# Altium schematic symbol library indication.SchLib: 22 symbols
Pins are listed as number, name and electrical type; pins without a type are passive.

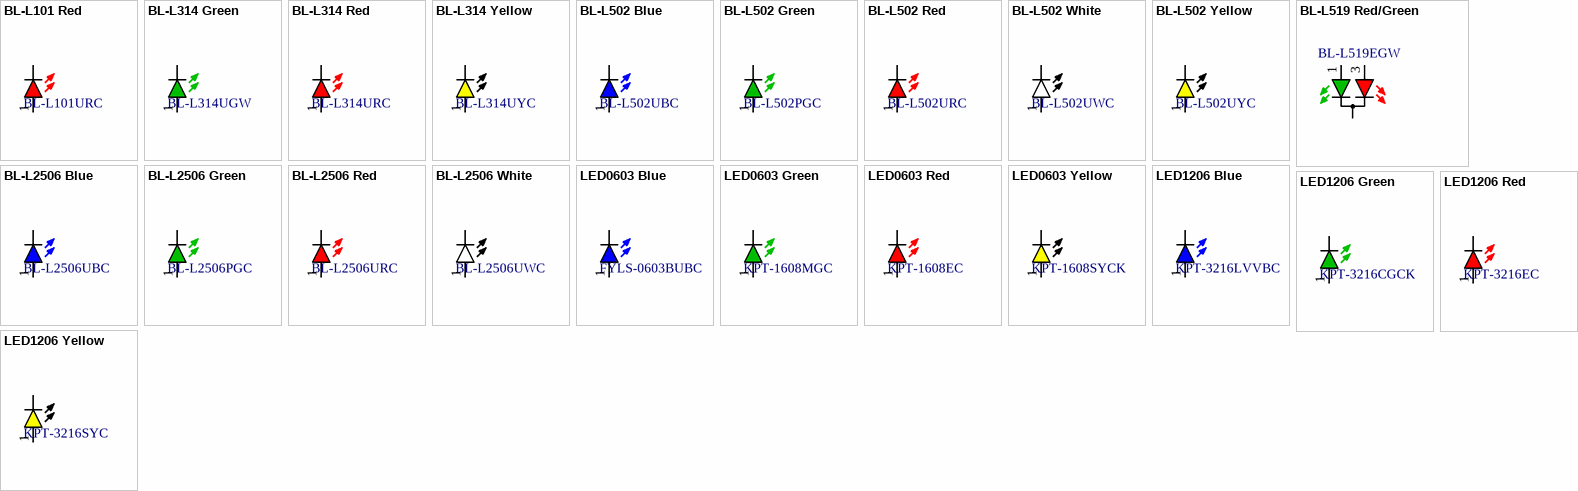
[diagram p0: symbols BL-L101 Red to LED1206 Yellow]

## BL-L101 Red
designator VD?, comment BL-L101URC
LED L101 Red d=10mm; Manufacturer: Betlux Electronics; Type: led-th; Power/Voltage: 0.1W; Value: 2.2V 20mA; ManufacturerPartNumber: BL-L101URC; RevisionDate: 20-11-2018; Package: L101; Name: BL-L101URC
footprint BL-L101RED (Chip Resistor, 2-Leads, Body 3,13x1,55mm, IPC Medium Density)
pins: 1, 2

## BL-L314 Green
designator VD?, comment BL-L314UGW
LED L314 Green d=3mm; Manufacturer: Betlux Electronics; Type: led-th; Power/Voltage: 0.1W; Value: 2.4V 20mA; ManufacturerPartNumber: BL-L314UGW; RevisionDate: 20-11-2018; Package: L314; Name: BL-L314UGW
footprint BL-L314GRN (Chip Resistor, 2-Leads, Body 3,13x1,55mm, IPC Medium Density)
pins: 1, 2

## BL-L314 Red
designator VD?, comment BL-L314URC
LED L314 Red d=3mm; Manufacturer: Betlux Electronics; Type: led-th; Power/Voltage: 0.1W; Value: 2.2V 20mA; ManufacturerPartNumber: BL-L314URC; RevisionDate: 20-11-2018; Package: L314; Name: BL-L314URC
footprint BL-L314RED (Chip Resistor, 2-Leads, Body 3,13x1,55mm, IPC Medium Density)
pins: 1, 2

## BL-L314 Yellow
designator VD?, comment BL-L314UYC
LED L314 Yellow d=3mm; Manufacturer: Betlux Electronics; Type: led-th; Power/Voltage: 0.1W; Value: 2.2V 20mA; ManufacturerPartNumber: BL-L314UYC; RevisionDate: 20-11-2018; Package: L314; Name: BL-L314UYC
footprint BL-L314YEL (Chip Resistor, 2-Leads, Body 3,13x1,55mm, IPC Medium Density)
pins: 1, 2

## BL-L502 Blue
designator VD?, comment BL-L502UBC
LED L502 Blue d=5mm; Manufacturer: Betlux Electronics; Type: led-th; Power/Voltage: 0.1W; Value: 2.1V 20mA; ManufacturerPartNumber: BL-L502UBC; RevisionDate: 20-11-2018; Package: L502; Name: BL-L502UBC
footprint BL-L502RED (Chip Resistor, 2-Leads, Body 3,13x1,55mm, IPC Medium Density)
pins: 1, 2

## BL-L502 Green
designator VD?, comment BL-L502PGC
LED L502 Green d=5mm; Manufacturer: Betlux Electronics; Type: led-th; Power/Voltage: 0.1W; Value: 2.1V 20mA; ManufacturerPartNumber: BL-L502PGC; RevisionDate: 20-11-2018; Package: L502; Name: BL-L502PGC
footprint BL-L502RED (Chip Resistor, 2-Leads, Body 3,13x1,55mm, IPC Medium Density)
pins: 1, 2

## BL-L502 Red
designator VD?, comment BL-L502URC
LED L502 Red d=5mm; Manufacturer: Betlux Electronics; Type: led-th; Power/Voltage: 0.1W; Value: 2.1V 20mA; ManufacturerPartNumber: BL-L502URC; RevisionDate: 20-11-2018; Package: L502; Name: BL-L502URC
footprint BL-L502RED (Chip Resistor, 2-Leads, Body 3,13x1,55mm, IPC Medium Density)
pins: 1, 2

## BL-L502 White
designator VD?, comment BL-L502UWC
LED L502 White d=5mm; Manufacturer: Betlux Electronics; Type: led-th; Power/Voltage: 0.1W; Value: 2.1V 20mA; ManufacturerPartNumber: BL-L502UWC; RevisionDate: 20-11-2018; Package: L502; Name: BL-L502UWC
footprint BL-L502RED (Chip Resistor, 2-Leads, Body 3,13x1,55mm, IPC Medium Density)
pins: 1, 2

## BL-L502 Yellow
designator VD?, comment BL-L502UYC
LED L502 Yellow d=5mm; Manufacturer: Betlux Electronics; Type: led-th; Power/Voltage: 0.1W; Value: 2.1V 20mA; ManufacturerPartNumber: BL-L502UYC; RevisionDate: 20-11-2018; Package: L502; Name: BL-L502UYC
footprint BL-L502RED (Chip Resistor, 2-Leads, Body 3,13x1,55mm, IPC Medium Density)
pins: 1, 2

## BL-L519 Red/Green
designator VD?, comment BL-L519EGW
LED L519 Red/Green d=5mm; Manufacturer: Betlux Electronics; Type: led-th; Power/Voltage: 0.1W; Value: 2.2V 20mA; ManufacturerPartNumber: BL-L519EGW; RevisionDate: 20-11-2018; Package: L519; Name: BL-L519EGW
footprint BL-L519 (Chip Resistor, 2-Leads, Body 3,13x1,55mm, IPC Medium Density)
pins: 1, 2, 3

## BL-L2506 Blue
designator VD?, comment BL-L2506UBC
LED L2506 Blue 5x2.5mm; Manufacturer: Betlux Electronics; Type: led-th; Power/Voltage: 0.1W; Value: 2.0V 20mA; ManufacturerPartNumber: BL-L2506UBC; RevisionDate: 20-11-2018; Package: L2506; Name: BL-L2506UBC
footprint BL-L2506BLU (Chip Resistor, 2-Leads, Body 3,13x1,55mm, IPC Medium Density)
pins: 1, 2

## BL-L2506 Green
designator VD?, comment BL-L2506PGC
LED L2506 Green 5x2.5mm; Manufacturer: Betlux Electronics; Type: led-th; Power/Voltage: 0.1W; Value: 2.0V 20mA; ManufacturerPartNumber: BL-L2506PGC; RevisionDate: 20-11-2018; Package: L2506; Name: BL-L2506PGC
footprint BL-L2506GRN (Chip Resistor, 2-Leads, Body 3,13x1,55mm, IPC Medium Density)
pins: 1, 2

## BL-L2506 Red
designator VD?, comment BL-L2506URC
LED L2506 Red 5x2.5mm; Manufacturer: Betlux Electronics; Type: led-th; Power/Voltage: 0.1W; Value: 2.0V 20mA; ManufacturerPartNumber: BL-L2506URC; RevisionDate: 20-11-2018; Package: L2506; Name: BL-L2506URC
footprint BL-L2506RED (Chip Resistor, 2-Leads, Body 3,13x1,55mm, IPC Medium Density)
pins: 1, 2

## BL-L2506 White
designator VD?, comment BL-L2506UWC
LED L2506 White 5x2.5mm; Manufacturer: Betlux Electronics; Type: led-th; Power/Voltage: 0.1W; Value: 2.0V 20mA; ManufacturerPartNumber: BL-L2506UWC; RevisionDate: 20-11-2018; Package: L2506; Name: BL-L2506UWC
footprint BL-L2506WHT (Chip Resistor, 2-Leads, Body 3,13x1,55mm, IPC Medium Density)
pins: 1, 2

## LED0603 Blue
designator VD?, comment FYLS-0603BUBC
LED 0603 Blue; Manufacturer: Foryard; Type: led-chip; Power/Voltage: 0.1W; Value: 3V 20mA; ManufacturerPartNumber: FYLS-0603BUBC; RevisionDate: 20-11-2018; Package: LED0603; Name: FYLS-0603BUBC
footprint LED0603BLU
pins: 1, 2

## LED0603 Green
designator VD?, comment KPT-1608MGC
LED 0603 Green; Manufacturer: Kingbright; Type: led-chip; Power/Voltage: 0.075W; Value: 1.9V 10mA; ManufacturerPartNumber: KPT-1608MGC; RevisionDate: 20-11-2018; Package: LED0603; Name: KPT-1608MGC
footprint LED0603GRN
pins: 1, 2

## LED0603 Red
designator VD?, comment KPT-1608EC
LED 0603 Red; Manufacturer: Kingbright; Type: led-chip; Power/Voltage: 0.075W; Value: 1.8V 10mA; ManufacturerPartNumber: KPT-1608EC; RevisionDate: 20-11-2018; Package: LED0603; Name: KPT-1608EC
footprint LED0603RED
pins: 1, 2

## LED0603 Yellow
designator VD?, comment KPT-1608SYCK
LED 0603 Yellow; Manufacturer: Kingbright; Type: led-chip; Power/Voltage: 0.075W; Value: 1.9V 10mA; ManufacturerPartNumber: KPT-1608SYCK; RevisionDate: 20-11-2018; Package: LED0603; Name: KPT-1608SYCK
footprint LED0603YEL
pins: 1, 2

## LED1206 Blue
designator VD?, comment KPT-3216LVVBC
LED 1206 Blue; Manufacturer: Kingbright; ManufacturerPartNumber: KPT-3216LVVBC-D; Type: led-chip; Power/Voltage: 0.075W; Value: 2.4V 20mA; RevisionDate: 20-11-2018; Package: LED1602; Name: KPT-3216LVVBC
footprint LED1206BLU (Chip Resistor, 2-Leads, Body 3,13x1,55mm, IPC Medium Density)
pins: 1, 2

## LED1206 Green
designator VD?, comment KPT-3216CGCK
LED 1206 Green; Manufacturer: Kingbright; Type: led-chip; Power/Voltage: 0.075W; Value: 2.2V 20mA; ManufacturerPartNumber: KPT-3216CGCK; RevisionDate: 20-11-2018; Package: LED1206; Name: KPT-3216CGCK
footprint LED1206GRN (Chip Resistor, 2-Leads, Body 3,13x1,55mm, IPC Medium Density)
pins: 1, 2

## LED1206 Red
designator VD?, comment KPT-3216EC
LED 1206 Red; Manufacturer: Kingbright; Type: led-chip; Power/Voltage: 0.075W; Value: 2.0V 20mA; ManufacturerPartNumber: KPT-3216EC; RevisionDate: 20-11-2018; Package: LED1206; Name: KPT-3216EC
footprint LED1206RED (Chip Resistor, 2-Leads, Body 3,13x1,55mm, IPC Medium Density)
pins: 1, 2

## LED1206 Yellow
designator VD?, comment KPT-3216SYC
LED 1206 Yellow; Manufacturer: Kingbright; Type: led-chip; Power/Voltage: 0.075W; Value: 2.0V 20mA; ManufacturerPartNumber: KPT-3216SYC; RevisionDate: 20-11-2018; Package: LED1602; Name: KPT-3216SYC
footprint LED1206YEL (Chip Resistor, 2-Leads, Body 3,13x1,55mm, IPC Medium Density)
pins: 1, 2